# Altium footprint library SOIC127P600X190-8.PcbLib: 1 footprints
Each footprint in its own frame and in the unit in brackets; x right, y up, seen from the top. Pads: shape width x height; smd on the part's side, far side on the other; paste and mask are expansions set on the pad; w line width, h text height; cw(c..) or ccw(c..) is an arc to the next point about the centre after c.
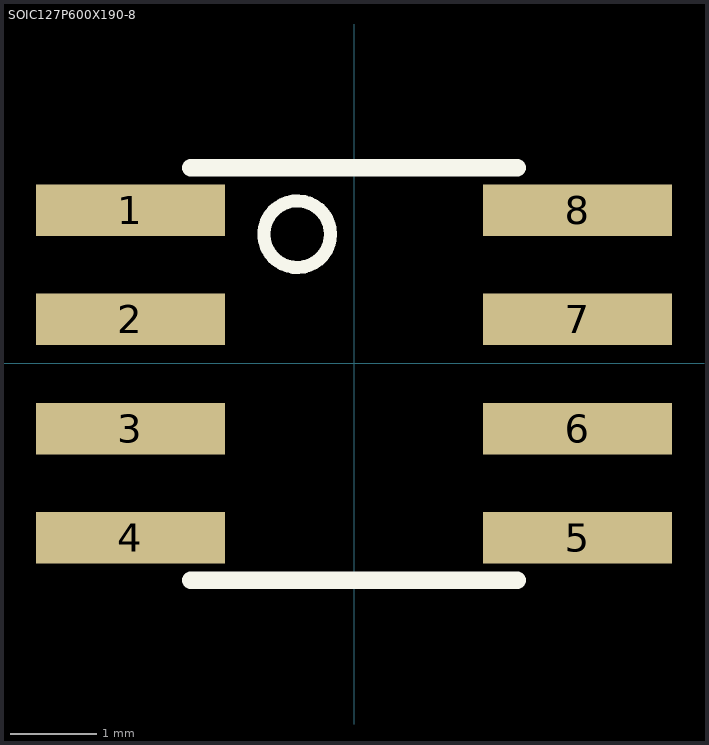
[diagram p0: the footprint, top view; thin cyan lines are the x and y axes]

## SOIC127P600X190-8 [mm] "SOIC127P + Nominal Lead Length X Height - Pin #"
height 1.9
pads (8):
  rect 2.2x0.6 smd: 1(-2.6,1.778) 2(-2.6,0.508) 3(-2.6,-0.762) 4(-2.6,-2.032) 5(2.6,-2.032) 6(2.6,-0.762) 7(2.6,0.508) 8(2.6,1.778)
Top Overlay:
  circle w0.152: c-0.66,1.499 r0.388
  lines w0.203: -1.9,-2.527 -1.4,-2.527 1.9,-2.527 ; -1.9,2.273 -1.4,2.273 1.9,2.273
Mechanical 1:
  region: -2,2.03 -2,1.533 -3.11,1.533 -3.11,2.03
  region: -2,0.755 -2,0.263 -3.108,0.263 -3.108,0.755
  region: -2,-0.517 -2,-1.007 -3.103,-1.007 -3.103,-0.517
  region: -2,-1.789 -2,-2.277 -3.103,-2.277 -3.103,-1.789
  region: 3.1,-1.79 3.1,-2.277 2.004,-2.277 2.004,-1.79
  region: 3.1,-0.518 3.1,-1.007 2.005,-1.007 2.005,-0.518
  region: 3.1,0.755 3.1,0.263 2.004,0.263 2.004,0.755
  region: 3.1,2.025 3.1,1.533 2.002,1.533 2.002,2.025
3D body "SOIC127P500X600-8N.step": height 2.03, standoff 0, extent -2.682,-2.577 2.683,2.323